# EAGLE library part OPAMP_DIFF_AUDIO (library ICs)
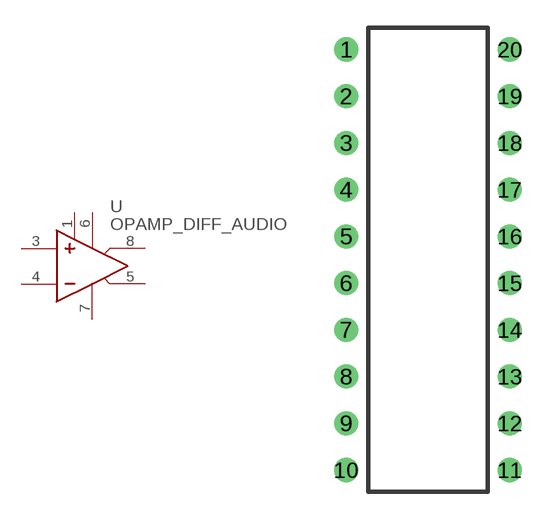
[diagram p286: symbol with the pads of DIP20; footprint DIP20]

Designator prefix -

## OPAMP_DIFF_AUDIO  [DIP20]
1  MISC
3  IN+
4  IN-
5  OUT+
6  V+
7  V-
8  OUT-

## Footprint DIP20 (pad centres in mm)
drill 0.8: 1 -4.445,11.43; 2 -4.445,8.89; 3 -4.445,6.35; 4 -4.445,3.81; 5 -4.445,1.27; 6 -4.445,-1.27; 7 -4.445,-3.81; 8 -4.445,-6.35; 9 -4.445,-8.89; 10 -4.445,-11.43; 11 4.445,-11.43; 12 4.445,-8.89; 13 4.445,-6.35; 14 4.445,-3.81; 15 4.445,-1.27; 16 4.445,1.27; 17 4.445,3.81; 18 4.445,6.35; 19 4.445,8.89; 20 4.445,11.43